# EAGLE library part XB_HDR (library ZMPLC)
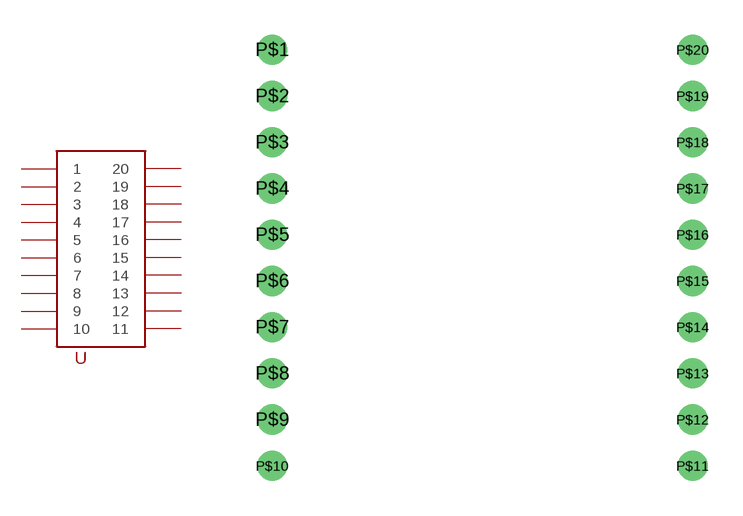
[diagram p25: symbol with the pads of XB_HDR; footprint XB_HDR]

Designator prefix -

## XB_HDR  [XB_HDR]
P$1  1
P$2  2
P$3  3
P$4  4
P$5  5
P$6  6
P$7  7
P$8  8
P$9  9
P$10  10
P$11  11
P$12  12
P$13  13
P$14  14
P$15  15
P$16  16
P$17  17
P$18  18
P$19  19
P$20  20

## Footprint XB_HDR (pad centres in mm)
drill 0.8: P$1 -11.62,9.81; P$2 -11.62,7.81; P$3 -11.62,5.81; P$4 -11.62,3.81; P$5 -11.62,1.81; P$6 -11.62,-0.19; P$7 -11.62,-2.19; P$8 -11.62,-4.19; P$9 -11.62,-6.19; P$10 -11.62,-8.19; P$11 6.57,-8.19; P$12 6.57,-6.19; P$13 6.57,-4.19; P$14 6.57,-2.19; P$15 6.57,-0.19; P$16 6.57,1.81; P$17 6.57,3.81; P$18 6.57,5.81; P$19 6.57,7.81; P$20 6.57,9.81